# Altium schematic symbol library Basic.SchLib: 22 symbols
Pins are listed as number, name and electrical type; pins without a type are passive.

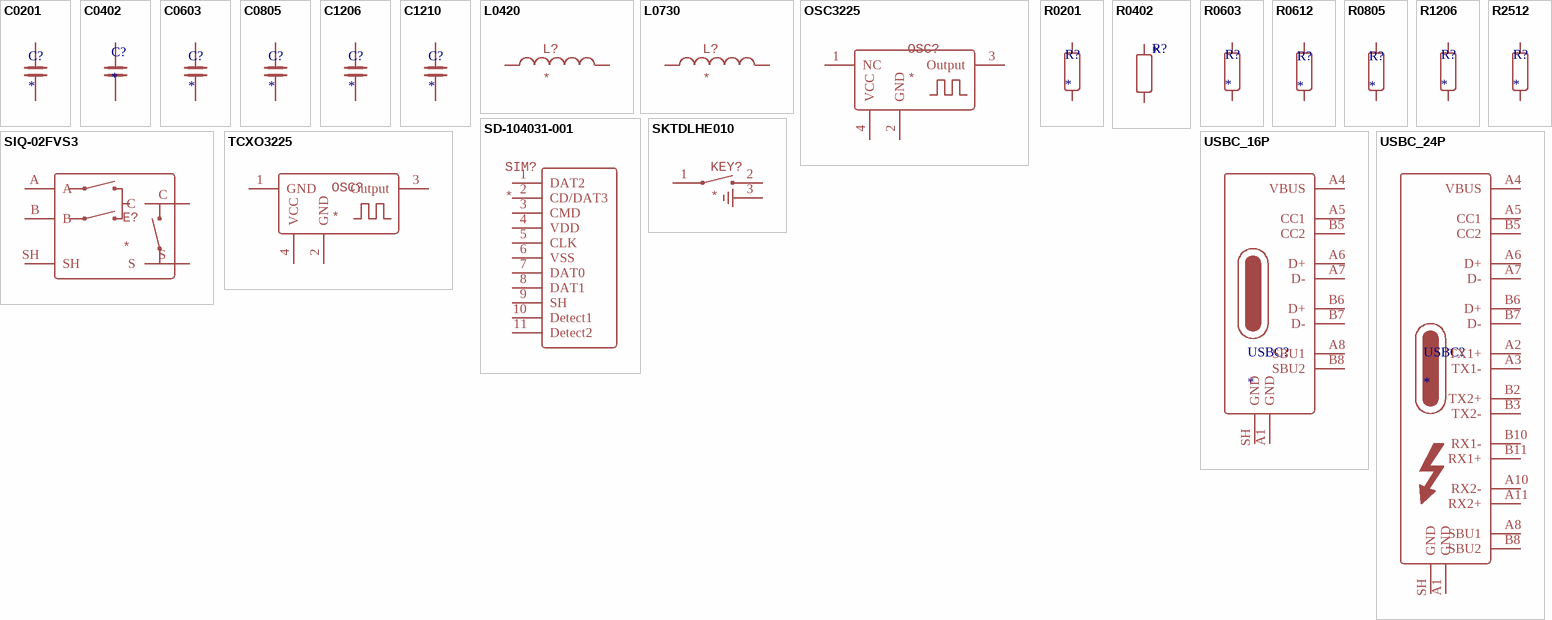
[diagram p0: symbols C0201 to USBC_24P]

## C0201
designator C?
Capacitor
footprint C0201 (Footprint not found)
pins: 0, 1

## C0402
designator C?
Capacitor
footprint C0402 (Footprint not found)
pins: 0, 1

## C0603
designator C?
Capacitor
footprint C0603 (Footprint not found)
pins: 0, 1

## C0805
designator C?
Capacitor
footprint C0805 (Footprint not found)
pins: 0, 1

## C1206
designator C?
Capacitor
footprint C1206 (Footprint not found)
pins: 0, 1

## C1210
designator C?
Capacitor
footprint C1210 (Footprint not found)
pins: 0, 1

## L0420
designator L?
4x4x2mm
footprint L0420
pins: 1, 2

## L0730
designator L?
8x8x3mm
footprint L0730
pins: 1, 2

## OSC3225
designator OSC?
3.3V HCMOS +/-3PPM
footprint OSC3225 (SMD-3225-4P)
pins: 1 NC, 2 GND, 3 Output, 4 VCC

## R0201
designator R?
Resistor
footprint R0201 (Footprint not found)
pins: 0, 1

## R0402
designator R?
Resistor
footprint R0402
pins: 0, 1

## R0603
designator R?
Resistor
footprint R0603 (Footprint not found)
pins: 0, 1

## R0612
designator R?
Resistor
footprint R0612 (Footprint not found)
pins: 0, 1

## R0805
designator R?
Resistor
footprint R0805 (Footprint not found)
pins: 0, 1

## R1206
designator R?
Resistor
footprint R1206 (Footprint not found)
pins: 0, 1

## R2512
designator R?
Resistor
footprint R2512 (Footprint not found)
pins: 0, 1

## SD-104031-001
designator SIM?
microSD Pitch 1.10mm
footprint Molex_1040310811 (1.10mm Pitch microSD / Memory Card Connector, Surface Mount, / Push-Pull Type, 1.42mm Height, with Detect / Switch)
pins: 1 DAT2, 2 CD/DAT3, 3 CMD, 4 VDD, 5 CLK, 6 VSS, 7 DAT0, 8 DAT1, 9 SH, 10 Detect1, 11 Detect2

## SIQ-02FVS3
designator E?
Encoder
footprint SIQ-02FVS3 (Encoder)
pins: A, B, C, S, SH

## SKTDLHE010
designator KEY?
SMD KEY SW
footprint SKTDLHE010 (SW C380198)
pins: 1, 2, 3

## TCXO3225
designator OSC?
DSB321SDN
pins: 1 GND, 2 GND, 3 Output, 4 VCC

## USBC_16P
designator USBC?
USB Type-C
footprint USBC_SMD_16P (16P+4L)
pins: A1 GND, A4 VBUS, A5 CC1, A6 D+, A7 D-, A8 SBU1, A9 VBUS, A12 GND, B1 GND, B4 VBUS, B5 CC2, B6 D+, B7 D-, B8 SBU2, B9 VBUS, B12 GND, SH GND

## USBC_24P
designator USBC?
USB Type-C
footprint USBC_DX07P022FA1
pins: A1 GND, A2 TX1+, A3 TX1-, A4 VBUS, A5 CC1, A6 D+, A7 D-, A8 SBU1, A9 VBUS, A10 RX2-, A11 RX2+, A12 GND, B1 GND, B2 TX2+, B3 TX2-, B4 VBUS, B5 CC2, B6 D+, B7 D-, B8 SBU2, B9 VBUS, B10 RX1-, B11 RX1+, B12 GND, SH GND